# EAGLE library part ATMEGA6490 (library AVR)
MICROCONTROLLER 64 Kbytes FLASH 4 Kbytes SRAM 2 Kbytes EEPROM USART 8-channel 10 bit ADC LCD Driver
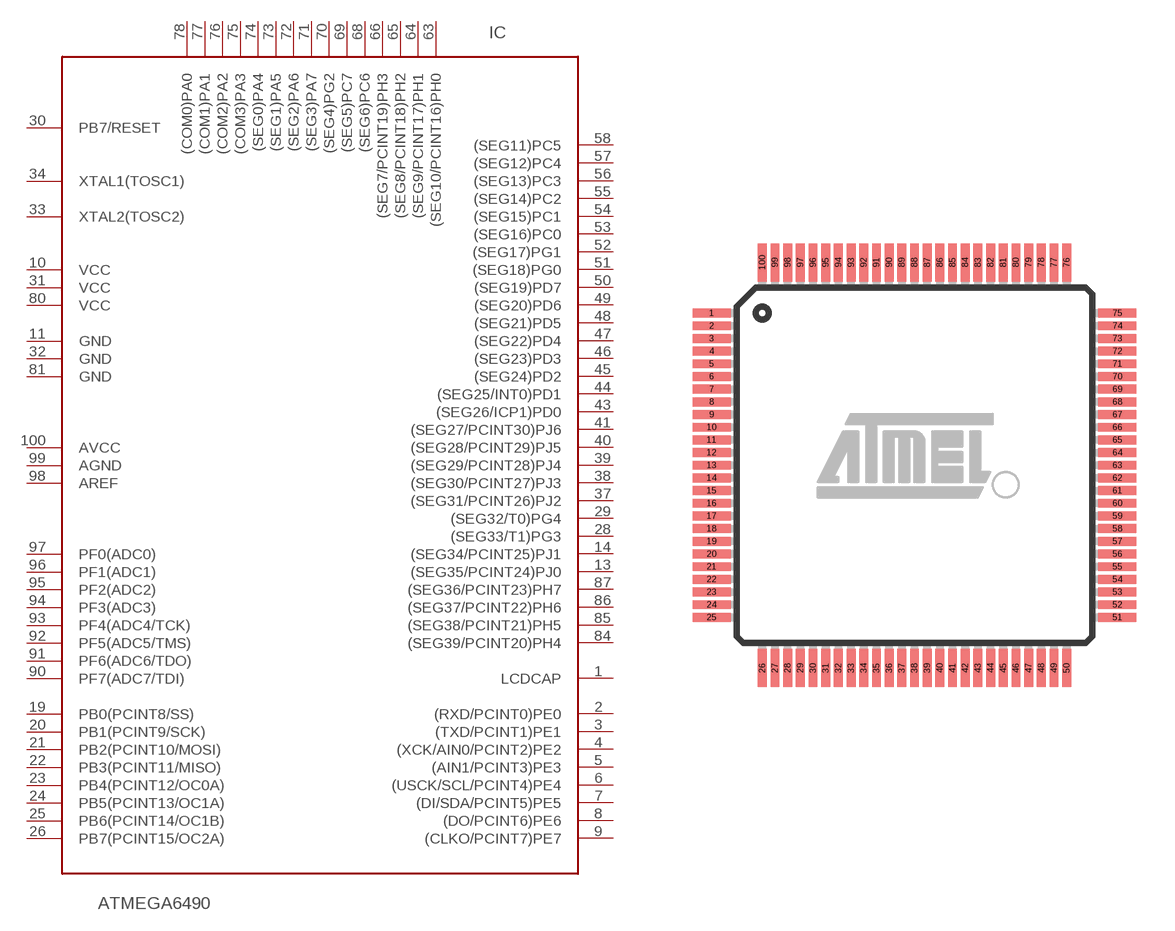
[diagram p65: symbol with the pads of TQFP100; footprint TQFP100]

Designator prefix IC

## ATMEGA6490-16A, ATMEGA6490V-8A  [TQFP100]
1  LCDCAP
2  (RXD/PCINT0)PE0
3  (TXD/PCINT1)PE1
4  (XCK/AIN0/PCINT2)PE2
5  (AIN1/PCINT3)PE3
6  (USCK/SCL/PCINT4)PE4
7  (DI/SDA/PCINT5)PE5
8  (DO/PCINT6)PE6
9  (CLKO/PCINT7)PE7
10  VCC  pwr
11  GND  pwr
12  P$57  nc
13  (SEG35/PCINT24)PJ0
14  (SEG34/PCINT25)PJ1
15  P$58  nc
16  P$59  nc
17  P$60  nc
18  P$61  nc
19  PB0(PCINT8/SS)  nc
20  PB1(PCINT9/SCK)  nc
21  PB2(PCINT10/MOSI)  nc
22  PB3(PCINT11/MISO)  nc
23  PB4(PCINT12/OC0A)  nc
24  PB5(PCINT13/OC1A)  nc
25  PB6(PCINT14/OC1B)  nc
26  PB7(PCINT15/OC2A)
27  P$62  nc
28  (SEG33/T1)PG3
29  (SEG32/T0)PG4
30  PB7/RESET  nc
31  VCC  pwr
32  GND  pwr
33  XTAL2(TOSC2)
34  XTAL1(TOSC1)
35  P$63  nc
36  P$64  nc
37  (SEG31/PCINT26)PJ2
38  (SEG30/PCINT27)PJ3
39  (SEG29/PCINT28)PJ4
40  (SEG28/PCINT29)PJ5
41  (SEG27/PCINT30)PJ6
42  P$65  nc
43  (SEG26/ICP1)PD0
44  (SEG25/INT0)PD1
45  (SEG24)PD2
46  (SEG23)PD3
47  (SEG22)PD4
48  (SEG21)PD5
49  (SEG20)PD6
50  (SEG19)PD7
51  (SEG18)PG0
52  (SEG17)PG1
53  (SEG16)PC0
54  (SEG15)PC1
55  (SEG14)PC2
56  (SEG13)PC3
57  (SEG12)PC4
58  (SEG11)PC5
59  P$66  nc
60  P$67  nc
61  P$68  nc
62  P$69  nc
63  (SEG10/PCINT16)PH0
64  (SEG9/PCINT17)PH1
65  (SEG8/PCINT18)PH2
66  (SEG7/PCINT19)PH3
67  P$70  nc
68  (SEG6)PC6
69  (SEG5)PC7
70  (SEG4)PG2
71  (SEG3)PA7
72  (SEG2)PA6
73  (SEG1)PA5
74  (SEG0)PA4
75  (COM3)PA3
76  (COM2)PA2
77  (COM1)PA1
78  (COM0)PA0
79  P$71  nc
80  VCC  pwr
81  GND  pwr
82  P$72  nc
83  P$73  nc
84  (SEG39/PCINT20)PH4
85  (SEG38/PCINT21)PH5
86  (SEG37/PCINT22)PH6
87  (SEG36/PCINT23)PH7
88  P$74  nc
89  P$75  nc
90  PF7(ADC7/TDI)  nc
91  PF6(ADC6/TDO)  nc
92  PF5(ADC5/TMS)  nc
93  PF4(ADC4/TCK)  nc
94  PF3(ADC3)  nc
95  PF2(ADC2)  nc
96  PF1(ADC1)  nc
97  PF0(ADC0)  nc
98  AREF  pwr
99  AGND  pwr
100  AVCC  pwr

## Footprint TQFP100 (pad centres in mm)
100-lead Thin Quad Flat Pack Package Outline
smd 1.5 x 0.35: 1 -8,6; 2 -8,5.5; 3 -8,5; 4 -8,4.5; 5 -8,4; 6 -8,3.5; 7 -8,3; 8 -8,2.5; 9 -8,2; 10 -8,1.5; 11 -8,1; 12 -8,0.5; 13 -8,0; 14 -8,-0.5; 15 -8,-1; 16 -8,-1.5; 17 -8,-2; 18 -8,-2.5; 19 -8,-3; 20 -8,-3.5; 21 -8,-4; 22 -8,-4.5; 23 -8,-5; 24 -8,-5.5; 25 -8,-6; 51 8,-6; 52 8,-5.5; 53 8,-5; 54 8,-4.5; 55 8,-4; 56 8,-3.5; 57 8,-3; 58 8,-2.5; 59 8,-2; 60 8,-1.5; 61 8,-1; 62 8,-0.5; 63 8,0; 64 8,0.5; 65 8,1; 66 8,1.5; 67 8,2; 68 8,2.5; 69 8,3; 70 8,3.5; 71 8,4; 72 8,4.5; 73 8,5; 74 8,5.5; 75 8,6
smd 0.35 x 1.5: 26 -6,-8; 27 -5.5,-8; 28 -5,-8; 29 -4.5,-8; 30 -4,-8; 31 -3.5,-8; 32 -3,-8; 33 -2.5,-8; 34 -2,-8; 35 -1.5,-8; 36 -1,-8; 37 -0.5,-8; 38 0,-8; 39 0.5,-8; 40 1,-8; 41 1.5,-8; 42 2,-8; 43 2.5,-8; 44 3,-8; 45 3.5,-8; 46 4,-8; 47 4.5,-8; 48 5,-8; 49 5.5,-8; 50 6,-8; 76 6,8; 77 5.5,8; 78 5,8; 79 4.5,8; 80 4,8; 81 3.5,8; 82 3,8; 83 2.5,8; 84 2,8; 85 1.5,8; 86 1,8; 87 0.5,8; 88 0,8; 89 -0.5,8; 90 -1,8; 91 -1.5,8; 92 -2,8; 93 -2.5,8; 94 -3,8; 95 -3.5,8; 96 -4,8; 97 -4.5,8; 98 -5,8; 99 -5.5,8; 100 -6,8